# Altium footprint library SNESConn.PcbLib: 1 footprints
Each footprint in its own frame and in the unit in brackets; x right, y up, seen from the top. Pads: shape width x height; smd on the part's side, far side on the other; paste and mask are expansions set on the pad; w line width, h text height; cw(c..) or ccw(c..) is an arc to the next point about the centre after c.
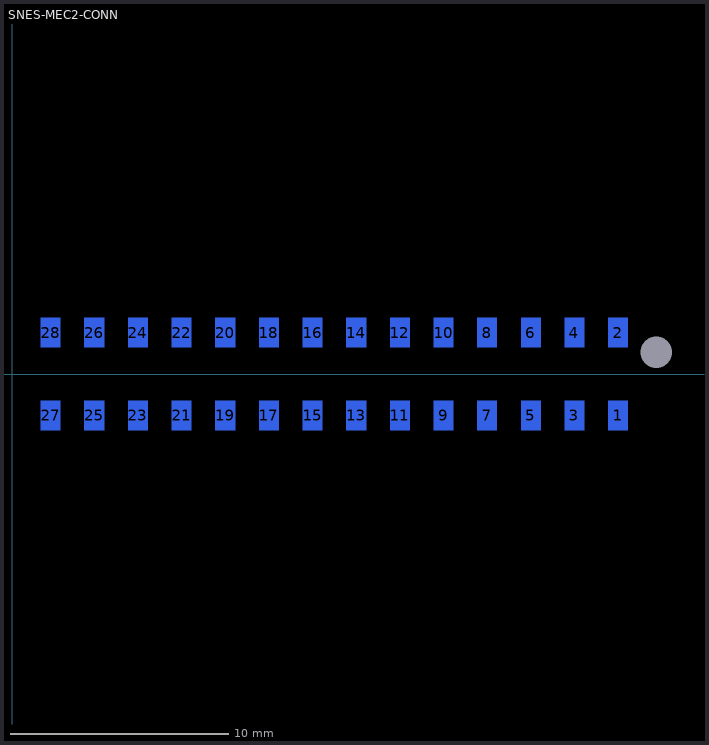
[diagram p0: the footprint, top view; thin cyan lines are the x and y axes]

## SNES-MEC2-CONN [mm] "Male connector for the EXT socket on the SNES"
pads (29):
  rect 0.9x1.35 smd far side: 1(27.75,-1.9) 2(27.75,1.9) 3(25.75,-1.9) 4(25.75,1.9) 5(23.75,-1.9) 6(23.75,1.9) 7(21.75,-1.9) 8(21.75,1.9) 9(19.75,-1.9) 10(19.75,1.9) 11(17.75,-1.9) 12(17.75,1.9) 13(15.75,-1.9) 14(15.75,1.9) 15(13.75,-1.9) 16(13.75,1.9) 17(11.75,-1.9) 18(11.75,1.9) 19(9.75,-1.9) 20(9.75,1.9) 21(7.75,-1.9) 22(7.75,1.9) 23(5.75,-1.9) 24(5.75,1.9) 25(3.75,-1.9) 26(3.75,1.9) 27(1.75,-1.9) 28(1.75,1.9)
  round 0 hole 1.45: ""(29.5,1)
Bottom Overlay:
  text "28" at -0.425,3.125 h1.52
  text "1" at 29.875,-4.575 h1.52
3D body: height 5, standoff 0, extent 1.3,-2.575 30.4,2.575